# Altium footprint library Nixie_Tube.PcbLib: 6 footprints
Each footprint in its own frame and in the unit in brackets; x right, y up, seen from the top. Pads: shape width x height; smd on the part's side, far side on the other; paste and mask are expansions set on the pad; w line width, h text height; cw(c..) or ccw(c..) is an arc to the next point about the centre after c.
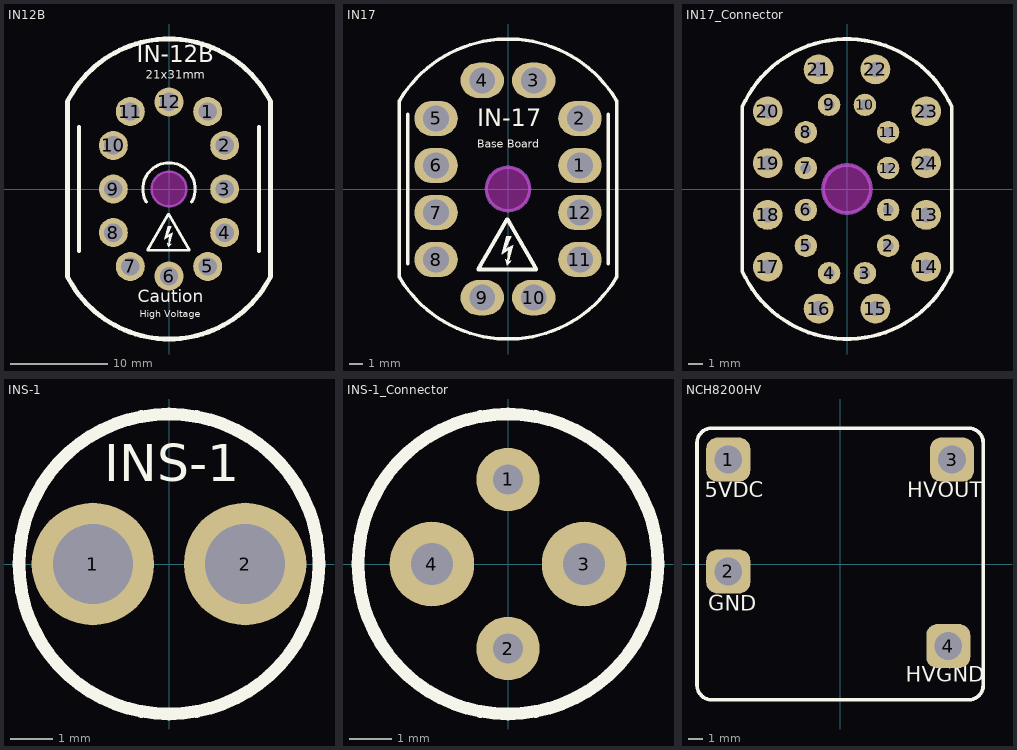
[diagram p0: the footprints below, top view; thin cyan lines are the x and y axes]

## IN12B [mm]
pads (12):
  round 3 hole 1.9: 1(4,8) 2(5.75,4.5) 3(5.75,0) 4(5.75,-4.5) 5(4,-8) 6(0,-9) 7(-4,-8) 8(-5.75,-4.5) 9(-5.75,0) 10(-5.75,4.5) 11(-4,8) 12(0,9)
Top Overlay:
  drawing of 9 lines, arcs and shapes, not listed
  text "Caution" at -3.208,-12.174 h2.2
  text "High Voltage" at -3.009,-13.491 h1.2
  text "21x31mm" at -2.413,11.06 h1.5
  text "IN-12B" at -3.322,12.454 h3
Keep-Out Layer:
  region: 0,-1.8 -0.177,-1.8 -0.525,-1.731 -0.853,-1.595 -1.147,-1.398 -1.398,-1.147 -1.595,-0.853 -1.731,-0.525 -1.8,-0.177 -1.8,0 -1.8,0.177 -1.731,0.525 -1.595,0.853 -1.398,1.147 -1.147,1.398 -0.853,1.595 -0.525,1.731 -0.177,1.8 0,1.8 0.177,1.8 0.525,1.731 0.853,1.595 1.147,1.398 1.398,1.147 1.595,0.853 1.731,0.525 1.8,0.177 1.8,0 1.8,-0.177 1.731,-0.525 1.595,-0.853 1.398,-1.147 1.147,-1.398 0.853,-1.595 0.525,-1.731 0.177,-1.8
Mechanical 1:
  circle w0.254: c0,0 r1.8

## IN17 [mm]
pads (12):
  oval 3.2x2.6 hole 1.9: 1(5.3,1.733) 2(5.3,5.2) 3(1.9,8) 4(-1.9,8) 5(-5.3,5.2) 6(-5.3,1.733) 7(-5.3,-1.733) 8(-5.3,-5.2) 9(-1.9,-8) 10(1.9,-8) 11(5.3,-5.2) 12(5.3,-1.733)
Top Overlay:
  drawing of 8 lines, arcs and shapes, not listed
  text "Base Board" at -2.271,2.804 h1
  text "IN-17" at -2.27,4.191 h2.2
Keep-Out Layer:
  region: 0,-1.6 -0.158,-1.6 -0.467,-1.539 -0.758,-1.418 -1.02,-1.243 -1.243,-1.02 -1.418,-0.758 -1.539,-0.467 -1.6,-0.158 -1.6,0 -1.6,0.158 -1.539,0.467 -1.418,0.758 -1.243,1.02 -1.02,1.243 -0.758,1.418 -0.467,1.539 -0.158,1.6 0,1.6 0.158,1.6 0.467,1.539 0.758,1.418 1.02,1.243 1.243,1.02 1.418,0.758 1.539,0.467 1.6,0.158 1.6,0 1.6,-0.158 1.539,-0.467 1.418,-0.758 1.243,-1.02 1.02,-1.243 0.758,-1.418 0.467,-1.539 0.158,-1.6
Mechanical 1:
  circle w0.254: c0,0 r1.6

## IN17_Connector [mm]
pads (24):
  round 1.5 hole 0.7: 1(2.75,-1.4) 2(2.75,-3.8) 3(1.2,-5.625) 4(-1.2,-5.625) 5(-2.75,-3.8) 6(-2.75,-1.4) 7(-2.75,1.4) 8(-2.75,3.8) 9(-1.2,5.625) 10(1.2,5.625) 11(2.75,3.8) 12(2.75,1.4)
  round 2 hole 1: 13(5.3,-1.733) 14(5.3,-5.2) 15(1.9,-8) 16(-1.9,-8) 17(-5.3,-5.2) 18(-5.3,-1.733) 19(-5.3,1.733) 20(-5.3,5.2) 21(-1.9,8) 22(1.9,8) 23(5.3,5.2) 24(5.3,1.733)
Top Overlay:
  lines w0.254: -7,-5.5 ccw(c0,-2.362) 7,-5.5 7,5.5 ccw(c0,2.362) -7,5.5 -7,-5.5
Keep-Out Layer:
  region: 0,-1.6 -0.158,-1.6 -0.467,-1.539 -0.758,-1.418 -1.02,-1.243 -1.243,-1.02 -1.418,-0.758 -1.539,-0.467 -1.6,-0.158 -1.6,0 -1.6,0.158 -1.539,0.467 -1.418,0.758 -1.243,1.02 -1.02,1.243 -0.758,1.418 -0.467,1.539 -0.158,1.6 0,1.6 0.158,1.6 0.467,1.539 0.758,1.418 1.02,1.243 1.243,1.02 1.418,0.758 1.539,0.467 1.6,0.158 1.6,0 1.6,-0.158 1.539,-0.467 1.418,-0.758 1.243,-1.02 1.02,-1.243 0.758,-1.418 0.467,-1.539 0.158,-1.6
Mechanical 1:
  circle w0.254: c0,0 r1.6

## INS-1 [mm]
pads (2):
  round 2.9 hole 1.9: 1(-1.8,0) 2(1.8,0)
Top Overlay:
  circle w0.3: c0,0 r3.55
  text "INS-1" at -1.528,1.668 h1.5

## INS-1_Connector [mm]
pads (4):
  round 1.5 hole 0.7: 1(0,2) 2(0,-2)
  round 2 hole 1: 3(1.8,0) 4(-1.8,0)
Top Overlay:
  circle w0.3: c0,0 r3.55

## NCH8200HV [mm]
pads (4):
  rrect50% 3x3 hole 1.9: 1(-7.62,7.112) 2(-7.62,-0.508) 3(7.62,7.112) 4(7.366,-5.588)
Top Overlay:
  lines w0.254: -9.75,-8.25 ccw(c-8.75,-8.25) -8.75,-9.25 8.75,-9.25 ccw(c8.75,-8.25) 9.75,-8.25 9.75,8.25 ccw(c8.75,8.25) 8.75,9.25 -8.75,9.25 ccw(c-8.75,8.25) -9.75,8.25 -9.75,-8.25
  text "5VDC" at -9.214,4.207 h1.78
  text "HVOUT" at 4.561,4.207 h1.78
  text "GND" at -8.97,-3.54 h1.78
  text "HVGND" at 4.458,-8.366 h1.78